# Altium footprint library ALH82A750CB600.PcbLib: 1 footprints
Each footprint in its own frame and in the unit in brackets; x right, y up, seen from the top. Pads: shape width x height; smd on the part's side, far side on the other; paste and mask are expansions set on the pad; w line width, h text height; cw(c..) or ccw(c..) is an arc to the next point about the centre after c.
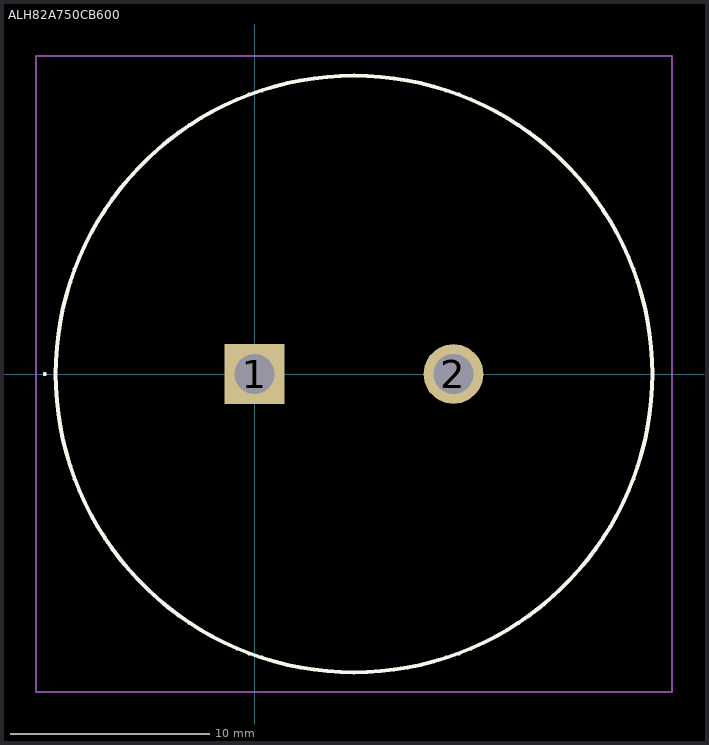
[diagram p0: the footprint, top view; thin cyan lines are the x and y axes]

## ALH82A750CB600 [mm]
pads (2):
  rect 3x3 hole 2: 1(0,0)
  round 3 hole 2: 2(10,0)
Top Overlay:
  lines w0.1: -10.6,0 -10.6,0 ; -10.6,0 ccw(c-10.55,0) -10.5,0 ; -10.6,0 cw(c-10.55,0) -10.5,0 ; -10.5,0 -10.5,0
  lines w0.2: -10,0 -10,0 ; -10,0 ccw(c5,0) 20,0 ; -10,0 cw(c5,0) 20,0 ; 20,0 20,0
Mechanical 15:
  lines w0.1: -10,0 -10,0 ; -10,0 ccw(c5,0) 20,0 ; -10,0 cw(c5,0) 20,0 ; 20,0 20,0
Mechanical 20:
  lines w0.1: -11,-16 21,-16 21,16 -11,16 -11,-16